# Altium footprint library Crystal.PcbLib: 11 footprints
Each footprint in its own frame and in the unit in brackets; x right, y up, seen from the top. Pads: shape width x height; smd on the part's side, far side on the other; paste and mask are expansions set on the pad; w line width, h text height; cw(c..) or ccw(c..) is an arc to the next point about the centre after c.
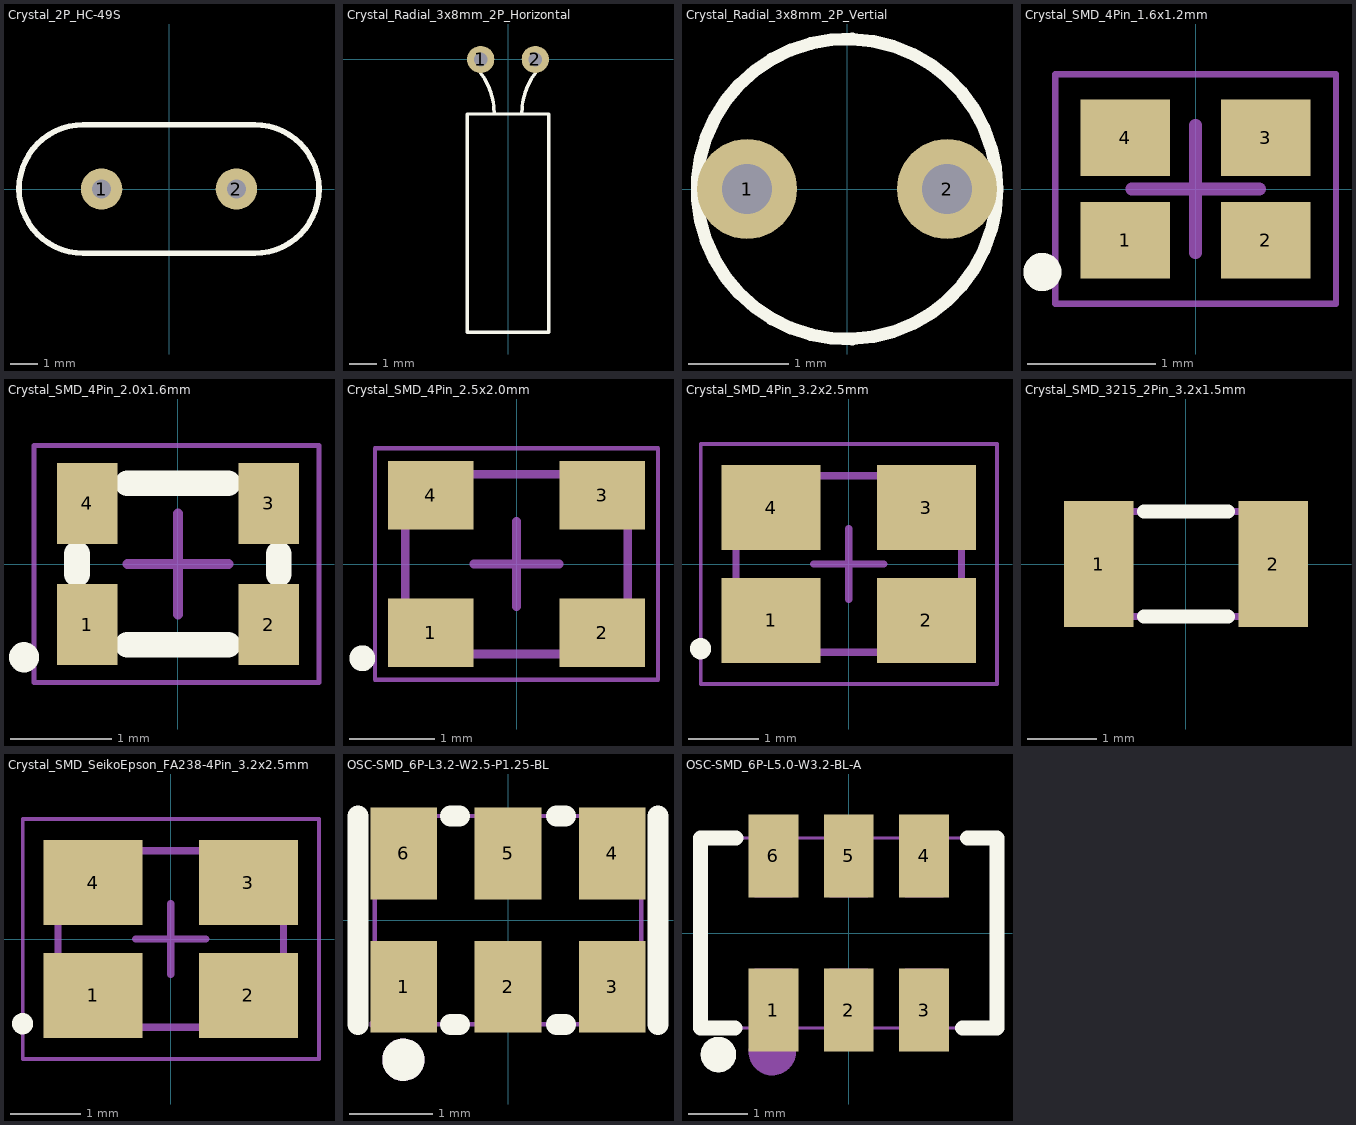
[diagram p0: the footprints below, top view; thin cyan lines are the x and y axes]

## Crystal_2P_HC-49S [mm]
pads (2):
  round 1.5 hole 0.7: 1(-2.44,0) 2(2.44,0)
Top Overlay:
  lines w0.203: -3.1,-2.325 cw(c-3.1,0) -3.1,2.325 3.1,2.325 cw(c3.1,0) 3.1,-2.325 -3.1,-2.325

## Crystal_Radial_3x8mm_2P_Horizontal [mm]
pads (2):
  round 1 hole 0.5: 1(-1,0) 2(1,0)
Top Overlay:
  lines w0.127: -1,-0.5 cw(c-3,-2) -0.5,-2 ; 0.5,-2 cw(c3,-2) 1,-0.5 ; -1.5,-10 -1.5,-2 1.5,-2 1.5,-10 -1.5,-10

## Crystal_Radial_3x8mm_2P_Vertial [mm]
pads (2):
  round 1 hole 0.5: 1(-1,0) 2(1,0)
Top Overlay:
  circle w0.127: c0,0 r1.5

## Crystal_SMD_4Pin_1.6x1.2mm [mm]
pads (4):
  rect 0.7x0.6 smd: 1(-0.55,-0.4) 2(0.55,-0.4) 3(0.55,0.4) 4(-0.55,0.4)
Top Overlay:
  circle w0.2: c-1.2,-0.65 r0.05
Mechanical 15:
  lines w0.05: -1.1,-0.9 -1.1,0.9 1.1,0.9 1.1,-0.9 -1.1,-0.9
  lines w0.1: -0.5,0 0.5,0 ; 0,-0.5 0,0.5
3D body "User Library-Siward_AX1612.STEP": height 0.41, standoff 0, extent -0.83,-0.629 0.83,0.629

## Crystal_SMD_4Pin_2.0x1.6mm [mm]
pads (4):
  rect 0.6x0.8 smd: 1(-0.9,-0.6) 2(0.9,-0.6) 3(0.9,0.6) 4(-0.9,0.6)
Top Overlay:
  circle w0.2: c-1.525,-0.925 r0.05
  lines w0.254: -1,-0.1 -1,0.1 ; -0.5,-0.8 0.5,-0.8 ; -0.5,0.8 0.5,0.8 ; 1,-0.1 1,0.1
Mechanical 15:
  lines w0.05: -1.425,-1.175 1.4,-1.175 1.4,1.175 -1.425,1.175 -1.425,-1.175
  lines w0.1: -0.5,0 0.5,0 ; 0,-0.5 0,0.5
3D body "User Library-NX2016SA.STEP": height 0.46, standoff -0.01, extent -1,-0.8 1,0.8

## Crystal_SMD_4Pin_2.5x2.0mm [mm] "Crystal_SMD_SeikoEpson_FA238-4Pin_3.2x2.5mm"
height 0.45
pads (4):
  rect 1x0.8 smd: 1(-1,-0.8) 2(1,-0.8) 3(1,0.8) 4(-1,0.8)
Top Overlay:
  circle w0.2: c-1.8,-1.1 r0.05
Mechanical 13:
  lines w0.1: -1.3,-1.05 1.3,-1.05 1.3,1.05 -1.3,1.05 -1.3,-1.05
Mechanical 15:
  lines w0.05: -1.651,-1.35 1.651,-1.35 1.651,1.35 -1.651,1.35 -1.651,-1.35
  lines w0.1: -0.5,0 0.5,0 ; 0,-0.5 0,0.5
3D body "User Library-Crystal NDK NX2520SA series.STEP": height 0.6, standoff 0.05, extent -1.3,-1.05 1.3,1.05

## Crystal_SMD_4Pin_3.2x2.5mm [mm] "Crystal_SMD_SeikoEpson_FA238-4Pin_3.2x2.5mm"
height 0.45
pads (4):
  rect 1.4x1.2 smd: 1(-1.1,-0.8) 2(1.1,-0.8) 3(1.1,0.8) 4(-1.1,0.8)
Top Overlay:
  circle w0.2: c-2.1,-1.2 r0.05
Mechanical 13:
  lines w0.1: -1.6,-1.25 1.6,-1.25 1.6,1.25 -1.6,1.25 -1.6,-1.25
Mechanical 15:
  lines w0.05: -2.1,-1.7 2.1,-1.7 2.1,1.7 -2.1,1.7 -2.1,-1.7
  lines w0.1: -0.5,0 0.5,0 ; 0,-0.5 0,0.5
3D body "User Library-3225-1.STEP": height 0.61, standoff 0, extent -1.6,-1.25 1.6,1.25

## Crystal_SMD_3215_2Pin_3.2x1.5mm [mm]
pads (2):
  rect 1x1.8 smd: 1(-1.25,0) 2(1.25,0)
Top Overlay:
  lines w0.2: -0.6,-0.75 0.6,-0.75 ; -0.6,0.75 0.6,0.75
Mechanical 7:
  lines w0.1: -1.6,-0.75 -1.6,0.75 1.6,0.75 1.6,-0.75 -1.6,-0.75
Mechanical 15:
  lines w0.1: -1.6,-0.55 cw(c-1.6,-0.75) -1.4,-0.75 1.4,-0.75 cw(c1.6,-0.75) 1.6,-0.55 1.6,0.55 cw(c1.6,0.75) 1.4,0.75 -1.4,0.75 cw(c-1.6,0.75) -1.6,0.55 -1.6,-0.55
3D body: height 0.81, standoff 0.15, extent -1.2,-0.6 1.2,0.6
3D body "User Library-Siward_SX3215.step": height 0.81, standoff 0, extent -1.6,-0.75 1.6,0.75

## Crystal_SMD_SeikoEpson_FA238-4Pin_3.2x2.5mm [mm] "Crystal_SMD_SeikoEpson_FA238-4Pin_3.2x2.5mm"
height 0.45
pads (4):
  rect 1.4x1.2 smd: 1(-1.1,-0.8) 2(1.1,-0.8) 3(1.1,0.8) 4(-1.1,0.8)
Top Overlay:
  circle w0.2: c-2.1,-1.2 r0.05
Mechanical 13:
  lines w0.1: -1.6,-1.25 1.6,-1.25 1.6,1.25 -1.6,1.25 -1.6,-1.25
Mechanical 15:
  lines w0.05: -2.1,-1.7 2.1,-1.7 2.1,1.7 -2.1,1.7 -2.1,-1.7
  lines w0.1: -0.5,0 0.5,0 ; 0,-0.5 0,0.5
3D body "User Library-3225-1.STEP": height 0.61, standoff 0, extent -1.6,-1.25 1.6,1.25

## OSC-SMD_6P-L3.2-W2.5-P1.25-BL [mm]
pads (6):
  rect 0.8x1.1 smd paste+0 mask+0.05: 1(-1.25,-0.8) 2(0,-0.8) 3(1.25,-0.8) 4(1.25,0.8) 5(0,0.8) 6(-1.25,0.8)
Top Overlay:
  circle w0.254: c-1.255,-1.675 r0.127
  lines w0.254: -1.8,-1.25 -1.8,1.25 ; -0.689,-1.25 -0.581,-1.25 ; -0.689,1.25 -0.581,1.25 ; 0.581,-1.25 0.689,-1.25 ; 0.581,1.25 0.689,1.25 ; 1.8,-1.25 1.8,1.25
Mechanical 6:
  circle w0.254: c-1.255,-1.675 r0.127
Mechanical 15:
  region: 0.95,1.15 1.55,1.15 1.55,0.35 0.95,0.35
  region: 0.95,-0.35 1.55,-0.35 1.55,-1.15 0.95,-1.15
  region: -0.3,1.15 0.3,1.15 0.3,0.35 -0.3,0.35
  region: -0.3,-0.35 0.3,-0.35 0.3,-1.15 -0.3,-1.15
  region: -1.55,1.15 -0.95,1.15 -0.95,0.35 -1.55,0.35
  region: -1.55,-0.35 -0.95,-0.35 -0.95,-1.15 -1.55,-1.15
  region: -1.54,-1.25 -1.54,-1.275 -1.575,-1.31 -1.625,-1.31 -1.66,-1.275 -1.66,-1.25 -1.66,-1.225 -1.625,-1.19 -1.575,-1.19 -1.54,-1.225 -1.54,-1.25
  lines w0.051: -1.6,-1.25 -1.6,1.25 1.6,1.25 1.6,-1.25 -1.6,-1.25
3D body "U1.step": height 1.12, standoff 0, extent -1.6,-1.25 1.6,1.25

## OSC-SMD_6P-L5.0-W3.2-BL-A [mm]
pads (6):
  rect 0.84x1.4 smd: 1(-1.27,-1.3) 2(0,-1.3) 3(1.27,-1.3) 4(1.27,1.3) 5(0,1.3) 6(-1.27,1.3)
Top Overlay:
  lines w0.254: -1.921,-1.6 -2.5,-1.6 -2.5,1.6 -1.9,1.6 ; 1.921,-1.6 2.5,-1.6 2.5,1.6 2,1.6
  lines w0.3: -2.2,-1.9 ccw(c-2.199,-2.05) -2.197,-1.9
Mechanical 6:
  circle w0.4: c-1.289,-2.002 r0.2
Mechanical 15:
  region: -2.44,-1.6 -2.44,-1.625 -2.475,-1.66 -2.525,-1.66 -2.56,-1.625 -2.56,-1.6 -2.56,-1.575 -2.525,-1.54 -2.475,-1.54 -2.44,-1.575 -2.44,-1.6
  region: -1.59,1.6 -0.95,1.6 -0.95,0.6 -1.59,0.6
  region: -0.32,1.6 0.32,1.6 0.32,0.6 -0.32,0.6
  region: -0.32,-0.6 0.32,-0.6 0.32,-1.6 -0.32,-1.6
  region: 0.95,1.6 1.59,1.6 1.59,0.6 0.95,0.6
  region: -1.59,-0.6 -0.95,-0.6 -0.95,-1.6 -1.59,-1.6
  region: 0.95,-0.6 1.59,-0.6 1.59,-1.6 0.95,-1.6
  lines w0.051: -2.5,-1.6 -2.5,1.6 2.5,1.6 2.5,-1.6 -2.5,-1.6
3D body "OSC-SMD_6P.stp": height 1.1, standoff 0, extent -2.5,-1.6 2.5,1.6